# EAGLE library part MUC-LPC1114 (library gclue)
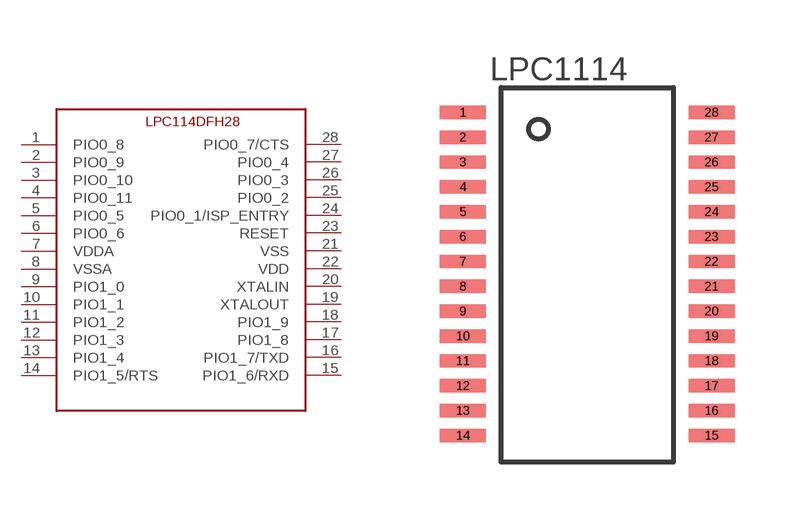
[diagram p9: symbol with the pads of MUC-LPC1114; footprint MUC-LPC1114]

Designator prefix -

## MUC-LPC1114  [MUC-LPC1114]
1  PIO0_8
2  PIO0_9
3  PIO0_10
4  PIO0_11
5  PIO0_5
6  PIO0_6
7  VDDA
8  VSSA
9  PIO1_0
10  PIO1_1
11  PIO1_2
12  PIO1_3
13  PIO1_4
14  PIO1_5/RTS
15  PIO1_6/RXD
16  PIO1_7/TXD
17  PIO1_8
18  PIO1_9
19  XTALOUT
20  XTALIN
21  VSS
22  VDD
23  RESET
24  PIO0_1/ISP_ENTRY
25  PIO0_2
26  PIO0_3
27  PIO0_4
28  PIO0_7/CTS

## Footprint MUC-LPC1114 (pad centres in mm)
smd 1.2 x 0.35: 1 -3.25,4.25; 2 -3.25,3.6; 3 -3.25,2.95; 4 -3.25,2.3; 5 -3.25,1.65; 6 -3.25,1; 7 -3.25,0.35; 8 -3.25,-0.3; 9 -3.25,-0.95; 10 -3.25,-1.6; 11 -3.25,-2.25; 12 -3.25,-2.9; 13 -3.25,-3.55; 14 -3.25,-4.2; 15 3.25,-4.2; 16 3.25,-3.55; 17 3.25,-2.9; 18 3.25,-2.25; 19 3.25,-1.6; 20 3.25,-0.95; 21 3.25,-0.3; 22 3.25,0.35; 23 3.25,1; 24 3.25,1.65; 25 3.25,2.3; 26 3.25,2.95; 27 3.25,3.6; 28 3.25,4.25